# Altium schematic symbol library CES-123-02-T-D.SchLib: 1 symbol
Pins are listed as number, name and electrical type; pins without a type are passive.

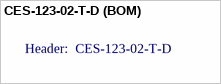
[diagram p0: symbol CES-123-02-T-D (BOM)]

## CES-123-02-T-D (BOM)
designator P?  (value not drawn)
Supplier 1: Newark; Supplier Part Number 1: 87P4099
text: Header:  CES-123-02-T-D